# EAGLE library part SN65HVDA100-Q1_D_8 (library shit)
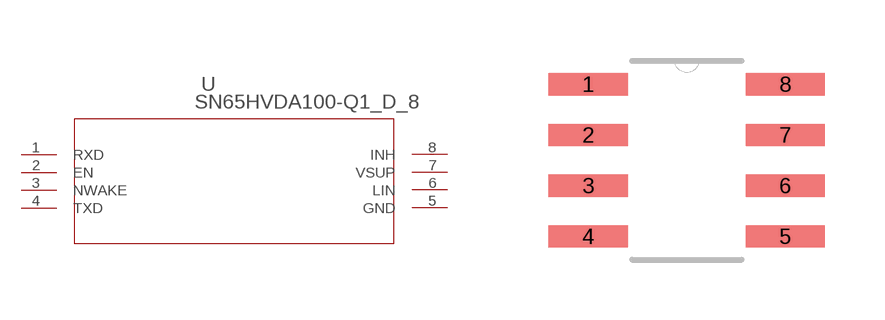
[diagram p8: symbol with the pads of D8; footprint D8]

Designator prefix U

## SN65HVDA100-Q1_D_8 (DATASHEETURL: http://www.ti.com/lit/gpn/SN65HVDA100-Q1; DESCRIPTION: LIN Physical Interface; FAMILY_NAME: LIN TRANSCEIVER; GENERIC_PART_NUMBER: SN65HVDA100-Q1; INDUSTRY_STD_PKG_TYPE: SOIC; MANUFACTURER: Texas Instruments; MANUFACTURER_PART_NUMBER: sn65hvda100-q1_d_8; PACKAGE_DESIGNATOR: D; PIN_COUNT: 8; VENDOR: Texas Instruments)  [D8]
1  RXD  out
2  EN  in
3  NWAKE  in
4  TXD  in
5  GND  pwr
6  LIN
7  VSUP  pwr
8  INH  out

## Footprint D8 (pad centres in mm)
smd 1.981 x 0.559: 1 -2.464,1.905; 2 -2.464,0.635; 3 -2.464,-0.635; 4 -2.464,-1.905; 5 2.464,-1.905; 6 2.464,-0.635; 7 2.464,0.635; 8 2.464,1.905